# Altium schematic symbol library ICs_Sensors.SchLib: 6 symbols
Pins are listed as number, name and electrical type; pins without a type are passive.

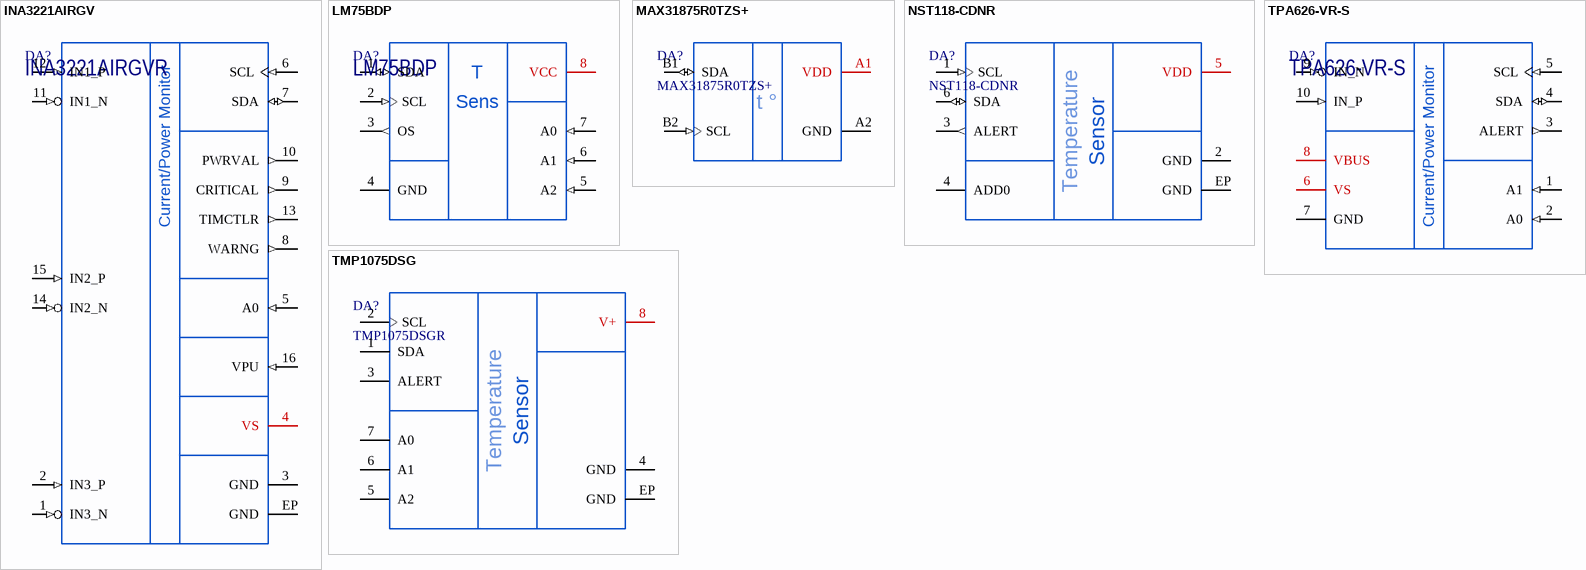
[diagram p0: symbols INA3221AIRGV to TPA626-VR-S]

## INA3221AIRGV
designator DA?, comment INA3221AIRGVR
Triple-Channel, High-Side Measurement, Shunt and Bus Voltage Monitor with I2C- and SMBUS-Compatible Interface; Manufacturer: Texas Instruments; Alternative1: INA3221AIRGVT; Marking: 3221; ItemType: IC; ItemSubType: Power Monitor; PartNumber: INA3221AIRGVR; Package: QFN-16; AltManufacturer1: Texas Instruments; Mounting: SMD
footprint QFN16_RGV0016A (QFN16, 4mm x 4mm TI Reference RGV0016A)
pins: 1 IN3_N (in), 2 IN3_P (in), 3 GND (power), 4 VS (power), 5 A0 (in), 6 SCL (in), 7 SDA (io), 8 WARNG (out), 9 CRITICAL (out), 10 PWRVAL (out), 11 IN1_N (in), 12 IN1_P (in), 13 TIMCTLR (out), 14 IN2_N (in), 15 IN2_P (in), 16 VPU (in), EP GND (power)
text: Current/Power Monitor

## LM75BDP
designator DA?
Digital temperature sensor and thermal watchdog -55C..+125C; Manufacturer: UMW; AltManufacturer1: NXP USA Inc.; Alternative1: LM75ADP,118; Marking: LM75B; ItemType: IC; Package: MSOP-8; PartNumber: LM75BDP; ItemSubType: Sensor; Mounting: SMD
footprint MSOP8_JEDEC_MO187AA (MSOP, 8-Leads, Body 3.00x3.00mm, Pitch 0.65mm)
pins: 1 SDA (io), 2 SCL (in), 3 OS (out), 4 GND (power), 5 A2 (in), 6 A1 (in), 7 A0 (in), 8 VCC (power)
text: T; Sens

## MAX31875R0TZS+
designator DA?
Low-Power I2C Temperature Sensor; Manufacturer: Analog Devices; Marking: B+; ItemType: IC; PartNumber: MAX31875R0TZS+; Package: WLP-4; ItemSubType: Sensor; Mounting: SMD
footprint WLP4_MAX31875R0 (WLP-4, 4-Leads, Body 0.837x0.837mm, Pitch 0.40mm, Maxim Integrater Reference Z40C0+1)
pins: A1 VDD (power), A2 GND (power), B1 SDA (io), B2 SCL (in)
text: t °

## NST118-CDNR
designator DA?
High-Accuracy, Low-Power Temperature Sensor with SMBus and I2C Interface; Manufacturer: Novosense; Marking: T118; ItemType: IC; PartNumber: NST118-CDNR; Package: DFN-6; ItemSubType: Sensor; Mounting: SMD
footprint DFN6_NST118 (DFN 2mm x 2mm)
pins: 1 SCL (in), 2 GND (power), 3 ALERT (out), 4 ADD0, 5 VDD (power), 6 SDA (io), EP GND (power)
text: Temperature

## TMP1075DSG
designator DA?, comment TMP1075DSGR
Temperature Sensor With I2C and SMBus Interface in Industry Standard LM75 Form Factor and Pinout; Manufacturer: Texas Instruments; Marking: 1AE; ItemType: IC; Alternative1: TMP1075DSGT; PartNumber: TMP1075DSGR; Package: WSON-8; ItemSubType: Sensor; AltManufacturer1: Texas Instruments; Mounting: SMD
footprint WSON8_DSG0008A (WSON, 8-Leads, Body 2.00x2.00mm, Pitch 0.5mm, TI case DSG0008A)
pins: 1 SDA (oc), 2 SCL (oc), 3 ALERT (oc), 4 GND (power), 5 A2, 6 A1, 7 A0, 8 V+ (power), EP GND (power)
text: Temperature

## TPA626-VR-S
designator DA?
Bi-Directional Current and Power Monitor; Manufacturer: 3PEAK; AltManufacturer1: Texas Instruments; Alternative1: INA226AIDGS; Marking: TPA626; ItemType: IC; PartNumber: TPA626-VR-S; Package: MSOP-10; ItemSubType: Power Monitor; Mounting: SMD
footprint MSOP10_JEDEC_MO187BA (MSOP, 10-Leads, Body 3.00x3.00mm, Pitch 0.5mm)
pins: 1 A1 (in), 2 A0 (in), 3 ALERT (out), 4 SDA (io), 5 SCL (in), 6 VS (power), 7 GND (power), 8 VBUS (power), 9 IN_N (in), 10 IN_P (in)
text: Current/Power Monitor